# Altium footprint library SOT-23-6.PcbLib: 1 footprints
Each footprint in its own frame and in the unit in brackets; x right, y up, seen from the top. Pads: shape width x height; smd on the part's side, far side on the other; paste and mask are expansions set on the pad; w line width, h text height; cw(c..) or ccw(c..) is an arc to the next point about the centre after c.
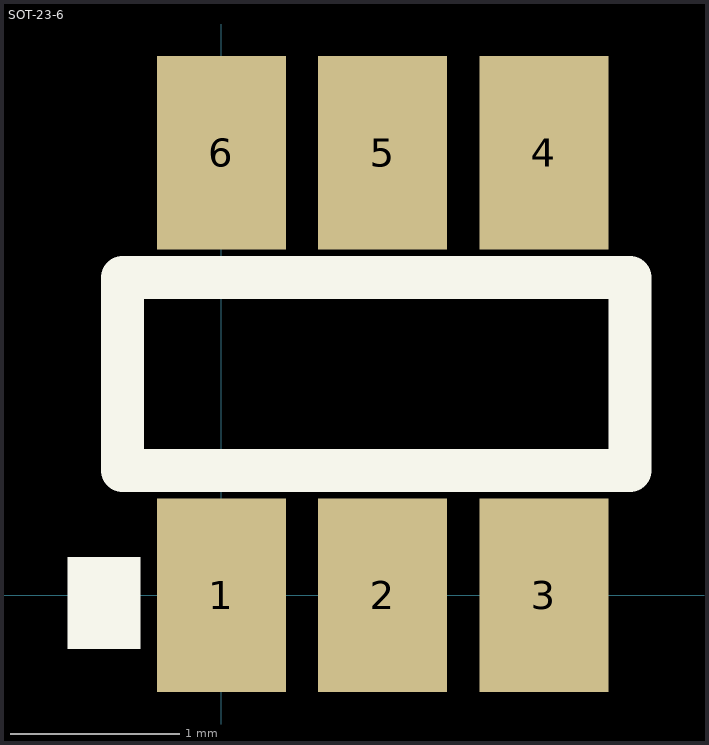
[diagram p0: the footprint, top view; thin cyan lines are the x and y axes]

## SOT-23-6 [mil]
height 120
pads (6):
  rect 30x45 smd: 1(0,0) 2(37.5,0) 3(75,0) 4(75,103) 5(37.5,103) 6(0,103)
TopOverlay:
  rectangle: -35.83,-12.48 -18.82,8.9
  lines w10: -23,29 95,29 95,74 -23,74 -23,29
Mechanical4:
  text ".044" at 0,0 h1
3D body: height 43.6, standoff 0.6, extent -17.42,3.58 92.58,99.08